# Altium footprint library CONN_USB.PcbLib: 17 footprints (part 2 of 2)
Each footprint in its own frame and in the unit in brackets; x right, y up, seen from the top. Pads: shape width x height; smd on the part's side, far side on the other; paste and mask are expansions set on the pad; w line width, h text height; cw(c..) or ccw(c..) is an arc to the next point about the centre after c.
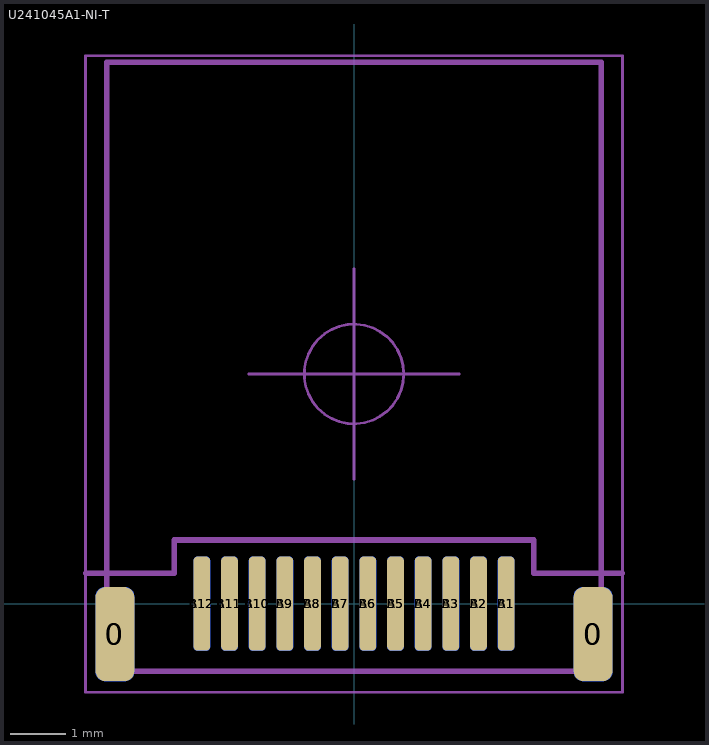
[diagram p1: the footprint, top view; thin cyan lines are the x and y axes]

## U241045A1-NI-T [mm]
pads (52):
  rrect50% 0.7x1.7 smd: 0(-4.32,-0.55) 0(4.32,-0.55)
  rrect50% 0.7x1.7 smd far side: 0(-4.32,-0.55) 0(4.32,-0.55)
  rrect50% 0.3x1.7 smd: A1(2.75,0) A2(2.25,0) A3(1.75,0) A4(1.25,0) A5(0.75,0) A6(0.25,0) A7(-0.25,0) A8(-0.75,0) A9(-1.25,0) A10(-1.75,0) A11(-2.25,0) A12(-2.75,0)
  rrect50% 0.3x1.7 smd far side: B1(2.75,0) B1(2.75,0) B1(2.75,0) B2(2.25,0) B2(2.25,0) B2(2.25,0) B3(1.75,0) B3(1.75,0) B3(1.75,0) B4(1.25,0) B4(1.25,0) B4(1.25,0) B5(0.75,0) B5(0.75,0) B5(0.75,0) B6(0.25,0) B6(0.25,0) B6(0.25,0) B7(-0.25,0) B7(-0.25,0) B7(-0.25,0) B8(-0.75,0) B8(-0.75,0) B8(-0.75,0) B9(-1.25,0) B9(-1.25,0) B9(-1.25,0) B10(-1.75,0) B10(-1.75,0) B10(-1.75,0) B11(-2.25,0) B11(-2.25,0) B11(-2.25,0) B12(-2.75,0) B12(-2.75,0) B12(-2.75,0)
Mechanical 13:
  lines w0.1: -4.85,0.55 -3.25,0.55 -3.25,1.15 3.25,1.15 3.25,0.55 4.85,0.55
Mechanical 14:
  lines w0.1: -4.47,-1.22 -4.47,9.78 4.47,9.78 4.47,-1.22 -4.47,-1.22
  text ".Comment" at -1.85,0.3 h0.7
  text ".Designator" at -2.725,4.701 h1.5
Mechanical 15:
  circle w0.05: c0,4.15 r0.9
  lines w0.05: -1.9,4.15 1.9,4.15 ; 0,2.25 0,6.05 ; -4.85,-1.6 -4.85,9.9 4.85,9.9 4.85,-1.6 -4.85,-1.6
3D body "USB-C-R1_0.75(1).stp": height 1.18, standoff -1.98, extent -4.47,-1.22 4.47,9.78